# EAGLE library part LT3060 (library straingauge)
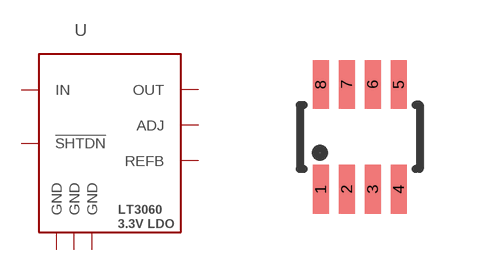
[diagram p1: symbol with the pads of TSOT-23-8; footprint TSOT-23-8]

Designator prefix -

## LT3060  [TSOT-23-8]
1  !SHTDN
2  GND  pwr
3  GND  pwr
4  GND  pwr
5  REFB
6  ADJ
7  OUT  pwr
8  IN  pwr

## Footprint TSOT-23-8 (pad centres in mm)
smd 0.4 x 1.22: 1 -0.975,-1.31; 2 -0.325,-1.31; 3 0.325,-1.31; 4 0.975,-1.31; 5 0.975,1.31; 6 0.325,1.31; 7 -0.325,1.31; 8 -0.975,1.31